# EAGLE library part L6235 (library my_ic)
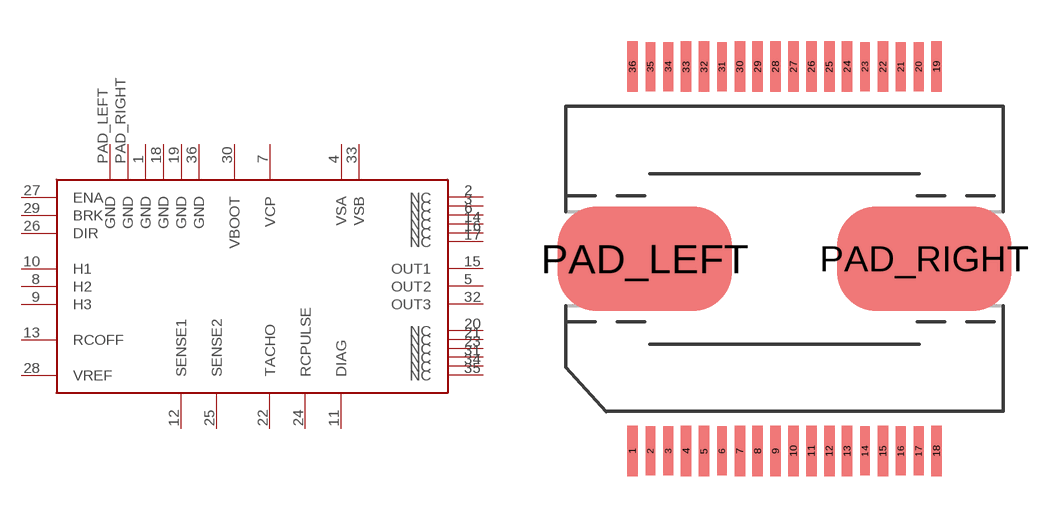
[diagram p1: symbol with the pads of L6235_POWERSO36; footprint L6235_POWERSO36]

Designator prefix -

## L6235  [L6235_POWERSO36]
1  GND  pwr
2  NC  nc
3  NC  nc
4  VSA  pwr
5  OUT2  out
6  NC  nc
7  VCP  out
8  H2  in
9  H3  in
10  H1  in
11  DIAG  out
12  SENSE1  in
13  RCOFF  pas
14  NC  nc
15  OUT1  out
16  NC  nc
17  NC  nc
18  GND  pwr
19  GND  pwr
20  NC  nc
21  NC  nc
22  TACHO  out
23  NC  nc
24  RCPULSE  pas
25  SENSE2  out
26  DIR  in
27  ENA  in
28  VREF  in
29  BRK  in
30  VBOOT  pwr
31  NC  nc
32  OUT3  out
33  VSB  pwr
34  NC  nc
35  NC  nc
36  GND  pwr
PAD_LEFT  GND  pwr
PAD_RIGHT  GND  pwr

## Footprint L6235_POWERSO36 (pad centres in mm)
smd 0.381 x 1.841: 1 -5.524,-6.985; 4 -3.574,-6.985; 5 -2.924,-6.985; 7 -1.623,-6.985; 8 -0.973,-6.985; 9 -0.323,-6.985; 10 0.328,-6.985; 11 0.978,-6.985; 12 1.628,-6.985; 13 2.278,-6.985; 15 3.579,-6.985; 18 5.53,-6.985; 19 5.53,6.985; 22 3.579,6.985; 24 2.278,6.985; 25 1.628,6.985; 26 0.978,6.985; 27 0.328,6.985; 28 -0.323,6.985; 29 -0.973,6.985; 30 -1.623,6.985; 32 -2.924,6.985; 33 -3.574,6.985; 36 -5.524,6.985
smd 0.356 x 1.778: 2 -4.874,-6.985; 3 -4.224,-6.985; 6 -2.273,-6.985; 14 2.929,-6.985; 16 4.229,-6.985; 17 4.879,-6.985; 20 4.879,6.985; 21 4.229,6.985; 23 2.929,6.985; 31 -2.273,6.985; 34 -4.224,6.985; 35 -4.874,6.985
smd 6.35 x 3.81: PAD_LEFT -5.08,0; PAD_RIGHT 5.08,0